# Altium schematic symbol library MFL XFMR.SchLib: 1 symbol
Pins are listed as number, name and electrical type; pins without a type are passive.

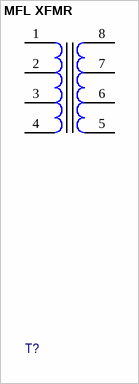
[diagram p0: symbol MFL XFMR]

## MFL XFMR
designator T?
pins: 1 NC, 2 PRI START, 3 50T, 4 100T, 5 450T, 6 NC, 7 NC, 8 550T